# Altium footprint library IPC-7353 TSSOP_40P_N.PcbLib: 4 footprints
Each footprint in its own frame and in the unit in brackets; x right, y up, seen from the top. Pads: shape width x height; smd on the part's side, far side on the other; paste and mask are expansions set on the pad; w line width, h text height; cw(c..) or ccw(c..) is an arc to the next point about the centre after c.
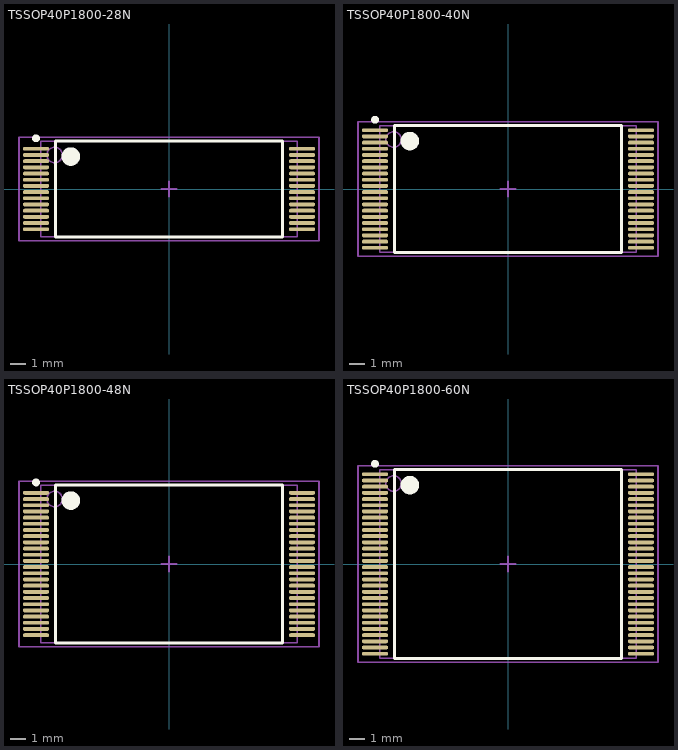
[diagram p0: the footprints below, top view; thin cyan lines are the x and y axes]

## TSSOP40P1800-28N  [mm] "TSSOP ,28-Leads, Body 6.2x16.6 mm; Pitch 0.4mm, IPC Medium Density"
height 1.27
pads (28):
  oval 1.7x0.25 smd: 1(-8.6,2.6) 2(-8.6,2.2) 3(-8.6,1.8) 4(-8.6,1.4) 5(-8.6,1) 6(-8.6,0.6) 7(-8.6,0.2) 8(-8.6,-0.2) 9(-8.6,-0.6) 10(-8.6,-1) 11(-8.6,-1.4) 12(-8.6,-1.8) 13(-8.6,-2.2) 14(-8.6,-2.6) 15(8.6,-2.6) 16(8.6,-2.2) 17(8.6,-1.8) 18(8.6,-1.4) 19(8.6,-1) 20(8.6,-0.6) 21(8.6,-0.2) 22(8.6,0.2) 23(8.6,0.6) 24(8.6,1) 25(8.6,1.4) 26(8.6,1.8) 27(8.6,2.2) 28(8.6,2.6)
Top Overlay:
  circle w0.25: c-8.6,3.275 r0.125
  circle w0.6: c-6.35,2.1 r0.3
  lines w0.2: -7.35,-3.1 -7.35,3.1 7.35,3.1 7.35,-3.1 -7.35,-3.1
Mechanical 13:
  circle w0.1: c-7.4,2.2 r0.5
  lines w0.1: -8.3,-3.1 -8.3,3.1 8.3,3.1 8.3,-3.1 -8.3,-3.1
Mechanical 15:
  lines w0.1: -0.5,0 0.5,0 ; 0,-0.5 0,0.5 ; -9.7,-3.35 -9.7,3.35 9.7,3.35 9.7,-3.35 -9.7,-3.35
3D body: height 1.27, standoff 0, extent -8.3,-3.1 8.3,3.1

## TSSOP40P1800-40N  [mm] "TSSOP ,40-Leads, Body 8.2x16.6 mm; Pitch 0.4mm, IPC Medium Density"
height 1.27
pads (40):
  oval 1.7x0.25 smd: 1(-8.6,3.8) 2(-8.6,3.4) 3(-8.6,3) 4(-8.6,2.6) 5(-8.6,2.2) 6(-8.6,1.8) 7(-8.6,1.4) 8(-8.6,1) 9(-8.6,0.6) 10(-8.6,0.2) 11(-8.6,-0.2) 12(-8.6,-0.6) 13(-8.6,-1) 14(-8.6,-1.4) 15(-8.6,-1.8) 16(-8.6,-2.2) 17(-8.6,-2.6) 18(-8.6,-3) 19(-8.6,-3.4) 20(-8.6,-3.8) 21(8.6,-3.8) 22(8.6,-3.4) 23(8.6,-3) 24(8.6,-2.6) 25(8.6,-2.2) 26(8.6,-1.8) 27(8.6,-1.4) 28(8.6,-1) 29(8.6,-0.6) 30(8.6,-0.2) 31(8.6,0.2) 32(8.6,0.6) 33(8.6,1) 34(8.6,1.4) 35(8.6,1.8) 36(8.6,2.2) 37(8.6,2.6) 38(8.6,3) 39(8.6,3.4) 40(8.6,3.8)
Top Overlay:
  circle w0.6: c-6.35,3.1 r0.3
  circle w0.25: c-8.6,4.475 r0.125
  lines w0.2: -7.35,-4.1 7.35,-4.1 7.35,4.1 -7.35,4.1 -7.35,-4.1
Mechanical 13:
  circle w0.1: c-7.4,3.2 r0.5
  lines w0.1: -8.3,-4.1 8.3,-4.1 8.3,4.1 -8.3,4.1 -8.3,-4.1
Mechanical 15:
  lines w0.1: -0.5,0 0.5,0 ; 0,-0.5 0,0.5 ; -9.7,-4.35 9.7,-4.35 9.7,4.35 -9.7,4.35 -9.7,-4.35
3D body: height 1.27, standoff 0, extent -8.3,-4.1 8.3,4.1

## TSSOP40P1800-48N  [mm] "TSSOP ,48-Leads, Body 10.2x16.6 mm; Pitch 0.4mm, IPC Medium Density"
height 1.27
pads (48):
  oval 1.7x0.25 smd: 1(-8.6,4.6) 2(-8.6,4.2) 3(-8.6,3.8) 4(-8.6,3.4) 5(-8.6,3) 6(-8.6,2.6) 7(-8.6,2.2) 8(-8.6,1.8) 9(-8.6,1.4) 10(-8.6,1) 11(-8.6,0.6) 12(-8.6,0.2) 13(-8.6,-0.2) 14(-8.6,-0.6) 15(-8.6,-1) 16(-8.6,-1.4) 17(-8.6,-1.8) 18(-8.6,-2.2) 19(-8.6,-2.6) 20(-8.6,-3) 21(-8.6,-3.4) 22(-8.6,-3.8) 23(-8.6,-4.2) 24(-8.6,-4.6) 25(8.6,-4.6) 26(8.6,-4.2) 27(8.6,-3.8) 28(8.6,-3.4) 29(8.6,-3) 30(8.6,-2.6) 31(8.6,-2.2) 32(8.6,-1.8) 33(8.6,-1.4) 34(8.6,-1) 35(8.6,-0.6) 36(8.6,-0.2) 37(8.6,0.2) 38(8.6,0.6) 39(8.6,1) 40(8.6,1.4) 41(8.6,1.8) 42(8.6,2.2) 43(8.6,2.6) 44(8.6,3) 45(8.6,3.4) 46(8.6,3.8) 47(8.6,4.2) 48(8.6,4.6)
Top Overlay:
  circle w0.6: c-6.35,4.1 r0.3
  circle w0.25: c-8.6,5.275 r0.125
  lines w0.2: -7.35,-5.1 7.35,-5.1 7.35,5.1 -7.35,5.1 -7.35,-5.1
Mechanical 13:
  circle w0.1: c-7.4,4.2 r0.5
  lines w0.1: -8.3,-5.1 8.3,-5.1 8.3,5.1 -8.3,5.1 -8.3,-5.1
Mechanical 15:
  lines w0.1: -0.5,0 0.5,0 ; 0,-0.5 0,0.5 ; -9.7,-5.35 9.7,-5.35 9.7,5.35 -9.7,5.35 -9.7,-5.35
3D body: height 1.27, standoff 0, extent -8.3,-5.1 8.3,5.1

## TSSOP40P1800-60N  [mm] "TSSOP ,60-Leads, Body 12.2x16.6 mm; Pitch 0.4mm, IPC Medium Density"
height 1.27
pads (60):
  oval 1.7x0.25 smd: 1(-8.6,5.8) 2(-8.6,5.4) 3(-8.6,5) 4(-8.6,4.6) 5(-8.6,4.2) 6(-8.6,3.8) 7(-8.6,3.4) 8(-8.6,3) 9(-8.6,2.6) 10(-8.6,2.2) 11(-8.6,1.8) 12(-8.6,1.4) 13(-8.6,1) 14(-8.6,0.6) 15(-8.6,0.2) 16(-8.6,-0.2) 17(-8.6,-0.6) 18(-8.6,-1) 19(-8.6,-1.4) 20(-8.6,-1.8) 21(-8.6,-2.2) 22(-8.6,-2.6) 23(-8.6,-3) 24(-8.6,-3.4) 25(-8.6,-3.8) 26(-8.6,-4.2) 27(-8.6,-4.6) 28(-8.6,-5) 29(-8.6,-5.4) 30(-8.6,-5.8) 31(8.6,-5.8) 32(8.6,-5.4) 33(8.6,-5) 34(8.6,-4.6) 35(8.6,-4.2) 36(8.6,-3.8) 37(8.6,-3.4) 38(8.6,-3) 39(8.6,-2.6) 40(8.6,-2.2) 41(8.6,-1.8) 42(8.6,-1.4) 43(8.6,-1) 44(8.6,-0.6) 45(8.6,-0.2) 46(8.6,0.2) 47(8.6,0.6) 48(8.6,1) 49(8.6,1.4) 50(8.6,1.8) 51(8.6,2.2) 52(8.6,2.6) 53(8.6,3) 54(8.6,3.4) 55(8.6,3.8) 56(8.6,4.2) 57(8.6,4.6) 58(8.6,5) 59(8.6,5.4) 60(8.6,5.8)
Top Overlay:
  circle w0.6: c-6.35,5.1 r0.3
  circle w0.25: c-8.6,6.475 r0.125
  lines w0.2: -7.35,-6.1 7.35,-6.1 7.35,6.1 -7.35,6.1 -7.35,-6.1
Mechanical 13:
  circle w0.1: c-7.4,5.2 r0.5
  lines w0.1: -8.3,-6.1 8.3,-6.1 8.3,6.1 -8.3,6.1 -8.3,-6.1
Mechanical 15:
  lines w0.1: -0.5,0 0.5,0 ; 0,-0.5 0,0.5 ; -9.7,-6.35 9.7,-6.35 9.7,6.35 -9.7,6.35 -9.7,-6.35
3D body: height 1.27, standoff 0, extent -8.3,-6.1 8.3,6.1